# EAGLE library part 691313710006 (library Wurth_Elektronik_Electromechanic_Terminal_Blocks_Connectors_rev15c)
WR-TBL Serie 3137 - 5.0mm Close Horizontal PCB Header , 6 Pins=>Code : Con_TBL_Pluggable_5.00_PCB_H_691313710006 <http://katalog.we-online.de/media/images/eican/Con_TBL_Pluggable_5.00_PCB_H_6913137100xx_pf2.jpg> Details see: http://katalog.we-online.de/en/em/691_313_710_0xx Created 2014-06-19, Karrer Zheng 2014 (C) Würth Elektronik
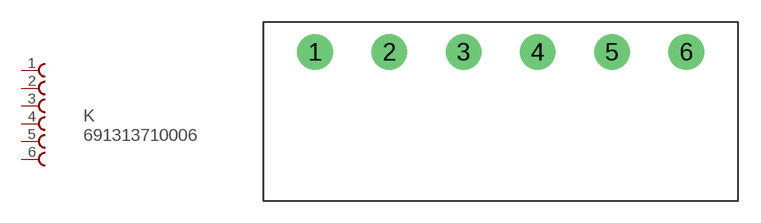
[diagram p66: symbol with the pads of 691313710006; footprint 691313710006]

Designator prefix K

## 691313710006  [691313710006]
1  1  pas
2  2  pas
3  3  pas
4  4  pas
5  5  pas
6  6  pas

## Footprint 691313710006 (pad centres in mm)
WR-TBL Serie 3137 - 5.0mm Close Horizontal PCB Header , 6 Pins
drill 1.6: 1 -5,0; 2 0,0; 3 5,0; 4 10,0; 5 15,0; 6 20,0